# EAGLE library part 691401700005 (library Wuerth_Elektronik_eiCan_Terminal_Blocks_v2.0)
WR-TBL Serie 401 - 5.0mm Screwless Vertikal Entry - 2 mm2 Wires, 5 Pins
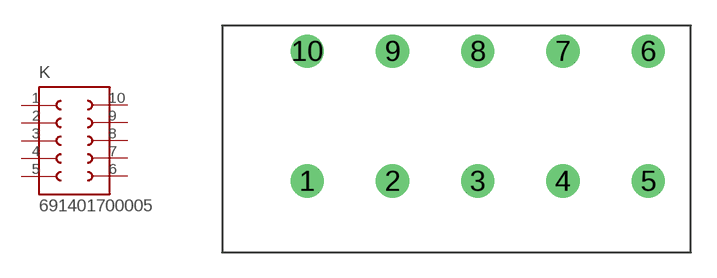
[diagram p261: symbol with the pads of 691401700005; footprint 691401700005]

Designator prefix K

## 691401700005  [691401700005]
1  1  pas
2  2  pas
3  3  pas
4  4  pas
5  5  pas
6  6  pas
7  7  pas
8  8  pas
9  9  pas
10  10  pas

## Footprint 691401700005 (pad centres in mm)
WR-TBL Serie 401 - 5.0mm Screwless Vertikal Entry - 2 mm2 Wires, 5 Pins
drill 1.3 round: 1 -5,0; 2 0,0; 3 5,0; 4 10,0; 5 15,0; 6 15,7.62; 7 10,7.62; 8 5,7.62; 9 0,7.62; 10 -5,7.62